# Altium schematic symbol library SCH - POWER - LINEAR VREG - TI TPS715ADRB.SchLib: 1 symbol
Pins are listed as number, name and electrical type; pins without a type are passive.

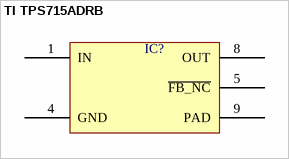
[diagram p0: symbol TI TPS715ADRB]

## TI TPS715ADRB
designator IC?  (value not drawn)
pins: 1 IN, 4 GND, 5 ~{FB_NC}, 8 OUT, 9 PAD